# Altium schematic symbol library cc2591.SchLib: 1 symbol
Pins are listed as number, name and electrical type; pins without a type are passive.

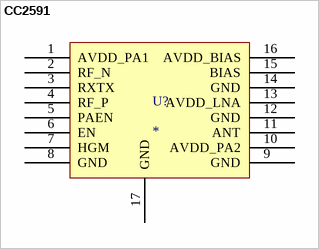
[diagram p0: symbol CC2591]

## CC2591
designator U?
CC2591
footprint QFN65P400X400X100-16N (QFN, 16-Leads, Body 4,2x4,2mm (max), Pitch 0,65mm, IPC Medium Density)
pins: 1 AVDD_PA1, 2 RF_N, 3 RXTX, 4 RF_P, 5 PAEN, 6 EN, 7 HGM, 8 GND, 9 GND, 10 AVDD_PA2, 11 ANT, 12 GND, 13 AVDD_LNA, 14 GND, 15 BIAS, 16 AVDD_BIAS, 17 GND